# Altium schematic symbol library ADClib.SchLib: 35 symbols
Pins are listed as number, name and electrical type; pins without a type are passive.

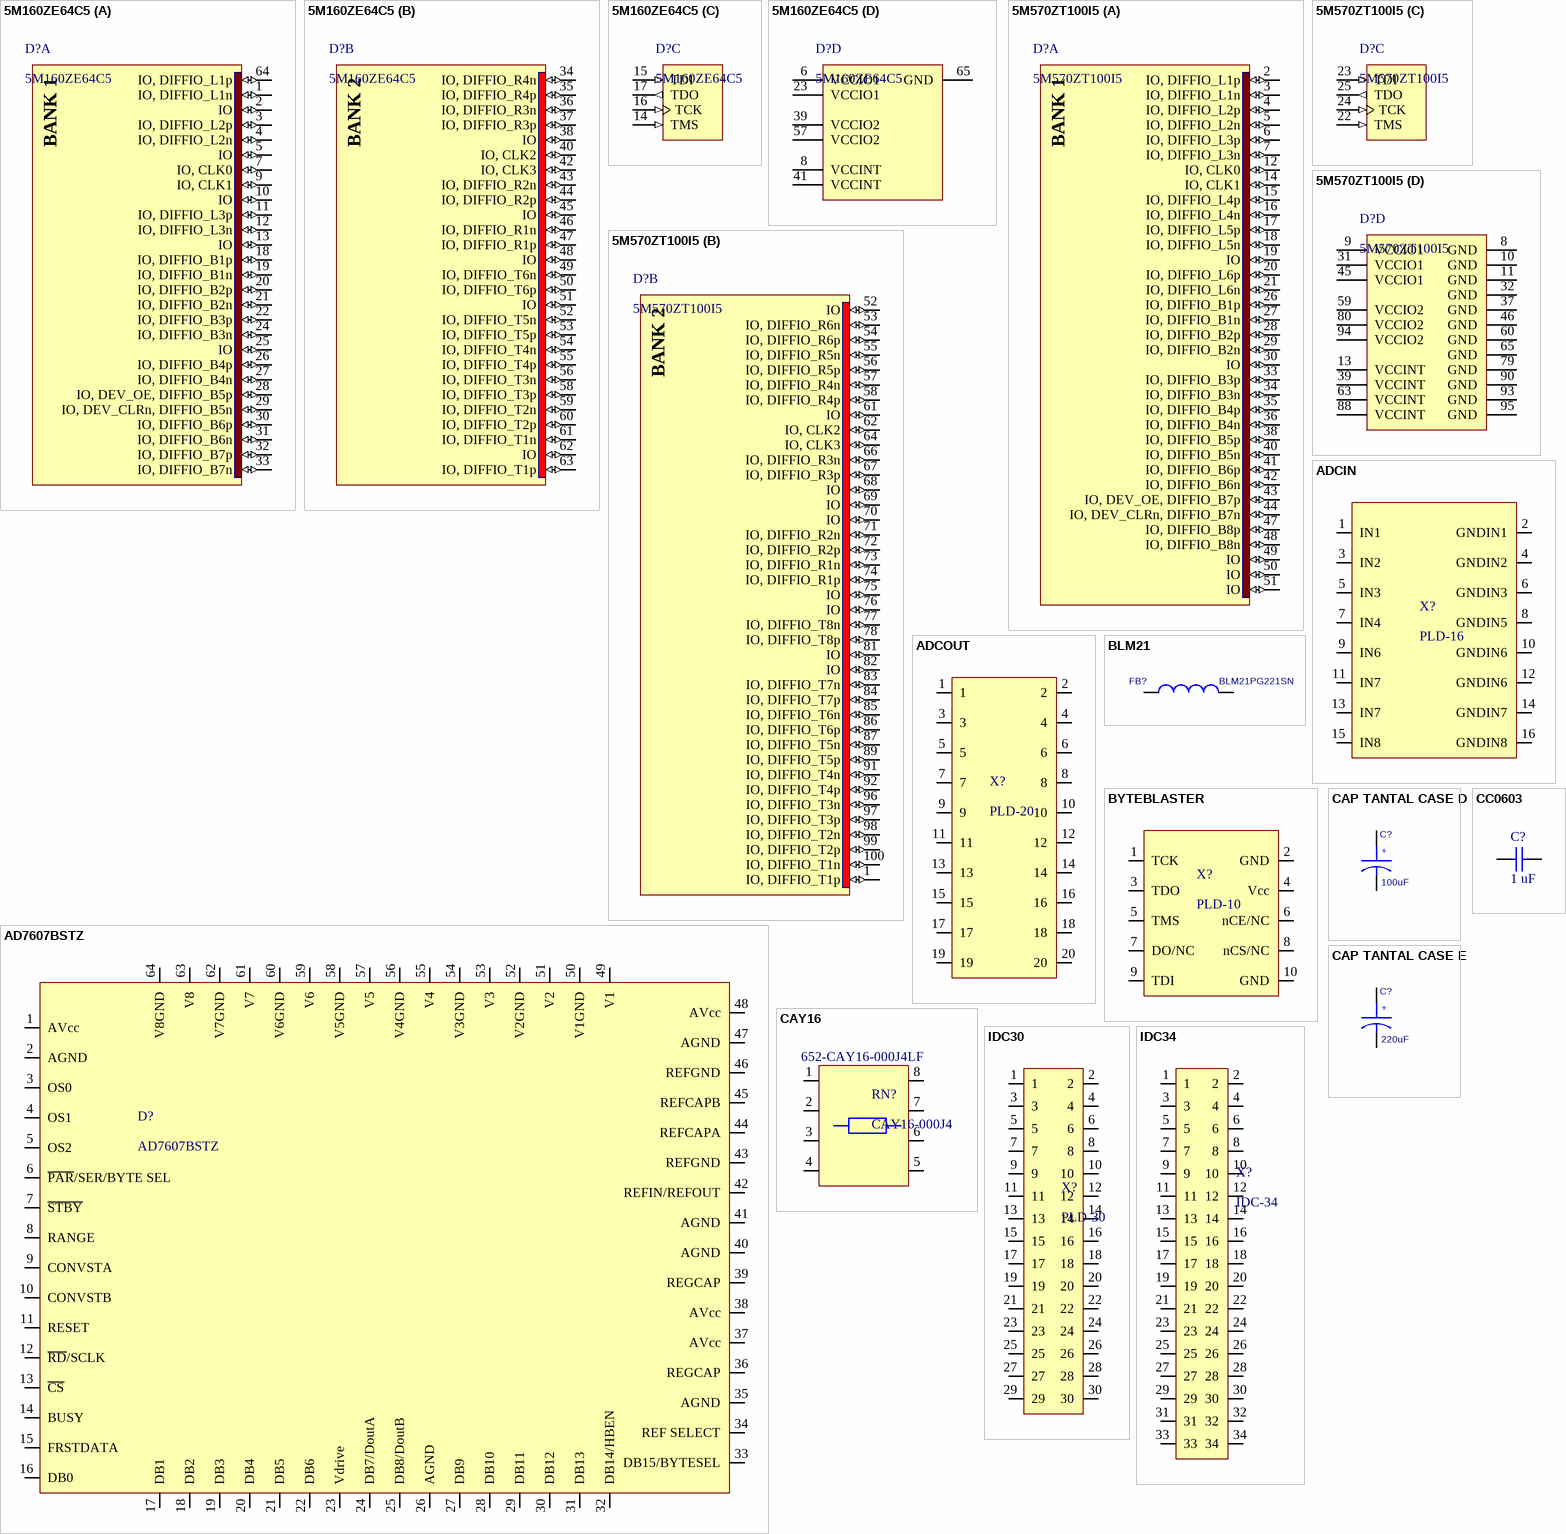
[diagram p0: symbols 5M160ZE64C5 to IDC34]

## 5M160ZE64C5
designator D?
MAX V 1.8V CPLD, 54 IOs, 160 Logic Elements, 64-Pin EQFP, Commercial Temperature, Speed Grade 5; DatasheetVersion: ver1.2, May-2011; PackageVersion: ver1.0, Jul-2011; PackageReference: EQFP64_A-120_D2-45; PackageDescription: 64-Pin Plastic Enhanced Quad Flat (EQFP) - Wire Bond - A:1.20 - D2:4.5; Code_JEDEC: MS-026-ABD-HD; ComponentLink1Description: Manufacturer URL; ComponentLink1URL: http://www.altera.com/; ComponentLink2Description: Datasheet; ComponentLink2URL: http://www.altera.com/literature/hb/max-v/max5_handbook.pdf; ComponentLink3Description: MAX V Device Pin-Out files; ComponentLink3URL: http://www.altera.com/literature/lit-dp.jsp?category=MAX%205&showspreadsheet=y; ComponentLink4Description: Package Specification; ComponentLink4URL: http://www.altera.com/devicepackaging/04R00384-01.pdf
footprint EQFP64_A-120_D2-45_N (Thin QFP, 64-Leads, Body 7x7mm, Pitch 0.4mm, Thermal Pad, IPC Medium Density)
footprint EQFP64_A-120_D2-45_L (Thin QFP, 64-Leads, Body 7x7mm, Pitch 0.4mm, Thermal Pad, IPC High Density)
footprint EQFP64_A-120_D2-45_M (Thin QFP, 64-Leads, Body 7x7mm, Pitch 0.4mm, Thermal Pad, IPC Low Density)
part A pins: 1 IO, DIFFIO_L1n (io), 2 IO (io), 3 IO, DIFFIO_L2p (io), 4 IO, DIFFIO_L2n (io), 5 IO (io), 7 IO, CLK0 (io), 9 IO, CLK1 (io), 10 IO (io), 11 IO, DIFFIO_L3p (io), 12 IO, DIFFIO_L3n (io), 13 IO (io), 18 IO, DIFFIO_B1p (io), 19 IO, DIFFIO_B1n (io), 20 IO, DIFFIO_B2p (io), 21 IO, DIFFIO_B2n (io), 22 IO, DIFFIO_B3p (io), 24 IO, DIFFIO_B3n (io), 25 IO (io), 26 IO, DIFFIO_B4p (io), 27 IO, DIFFIO_B4n (io), 28 IO, DEV_OE, DIFFIO_B5p (io), 29 IO, DEV_CLRn, DIFFIO_B5n (io), 30 IO, DIFFIO_B6p (io), 31 IO, DIFFIO_B6n (io), 32 IO, DIFFIO_B7p (io), 33 IO, DIFFIO_B7n (io), 64 IO, DIFFIO_L1p (io)
part B pins: 34 IO, DIFFIO_R4n (io), 35 IO, DIFFIO_R4p (io), 36 IO, DIFFIO_R3n (io), 37 IO, DIFFIO_R3p (io), 38 IO (io), 40 IO, CLK2 (io), 42 IO, CLK3 (io), 43 IO, DIFFIO_R2n (io), 44 IO, DIFFIO_R2p (io), 45 IO (io), 46 IO, DIFFIO_R1n (io), 47 IO, DIFFIO_R1p (io), 48 IO (io), 49 IO, DIFFIO_T6n (io), 50 IO, DIFFIO_T6p (io), 51 IO (io), 52 IO, DIFFIO_T5n (io), 53 IO, DIFFIO_T5p (io), 54 IO, DIFFIO_T4n (io), 55 IO, DIFFIO_T4p (io), 56 IO, DIFFIO_T3n (io), 58 IO, DIFFIO_T3p (io), 59 IO, DIFFIO_T2n (io), 60 IO, DIFFIO_T2p (io), 61 IO, DIFFIO_T1n (io), 62 IO (io), 63 IO, DIFFIO_T1p (io)
part C pins: 14 TMS (in), 15 TDI (in), 16 TCK (in), 17 TDO (out)
part D pins: 6 VCCIO1 (power), 8 VCCINT (power), 23 VCCIO1 (power), 39 VCCIO2 (power), 41 VCCINT (power), 57 VCCIO2 (power), 65 GND (power)
part A text: BANK 1
part B text: BANK 2

## 5M570ZT100I5
designator D?
MAX V 1.8V CPLD, 74 IOs, 570 Logic Elements, 100-Pin TQFP, Industrial Temperature, Speed Grade 5; DatasheetVersion: ver1.2, May-2011; PackageVersion: ver1.0, Jul-2011; PackageReference: TQFP100_A-120; PackageDescription: 100-Pin Plastic Thin Quad Flat Pack (TQFP) - Wire Bond - A:1.20; Code_JEDEC: MS-029-AED; ComponentLink1Description: Manufacturer URL; ComponentLink1URL: http://www.altera.com/; ComponentLink2Description: Datasheet; ComponentLink2URL: http://www.altera.com/literature/hb/max-v/max5_handbook.pdf; ComponentLink3Description: MAX V Device Pin-Out files; ComponentLink3URL: http://www.altera.com/literature/lit-dp.jsp?category=MAX%205&showspreadsheet=y; ComponentLink4Description: Package Specification; ComponentLink4URL: http://www.altera.com/devicepackaging/04R00365-01.pdf
footprint TQFP100_A-120_N (Thin QFP, 100-Leads, Body 14x14mm, Pitch 0.5mm, IPC Medium Density)
footprint TQFP100_A-120_L (Thin QFP, 100-Leads, Body 14x14mm, Pitch 0.5mm, IPC High Density)
footprint TQFP100_A-120_M (Thin QFP, 100-Leads, Body 14x14mm, Pitch 0.5mm, IPC Low Density)
part A pins: 2 IO, DIFFIO_L1p (io), 3 IO, DIFFIO_L1n (io), 4 IO, DIFFIO_L2p (io), 5 IO, DIFFIO_L2n (io), 6 IO, DIFFIO_L3p (io), 7 IO, DIFFIO_L3n (io), 12 IO, CLK0 (io), 14 IO, CLK1 (io), 15 IO, DIFFIO_L4p (io), 16 IO, DIFFIO_L4n (io), 17 IO, DIFFIO_L5p (io), 18 IO, DIFFIO_L5n (io), 19 IO (io), 20 IO, DIFFIO_L6p (io), 21 IO, DIFFIO_L6n (io), 26 IO, DIFFIO_B1p (io), 27 IO, DIFFIO_B1n (io), 28 IO, DIFFIO_B2p (io), 29 IO, DIFFIO_B2n (io), 30 IO (io), 33 IO, DIFFIO_B3p (io), 34 IO, DIFFIO_B3n (io), 35 IO, DIFFIO_B4p (io), 36 IO, DIFFIO_B4n (io), 38 IO, DIFFIO_B5p (io), 40 IO, DIFFIO_B5n (io), 41 IO, DIFFIO_B6p (io), 42 IO, DIFFIO_B6n (io), 43 IO, DEV_OE, DIFFIO_B7p (io), 44 IO, DEV_CLRn, DIFFIO_B7n (io), 47 IO, DIFFIO_B8p (io), 48 IO, DIFFIO_B8n (io), 49 IO (io), 50 IO (io), 51 IO (io)
part B pins: 1 IO, DIFFIO_T1p (io), 52 IO (io), 53 IO, DIFFIO_R6n (io), 54 IO, DIFFIO_R6p (io), 55 IO, DIFFIO_R5n (io), 56 IO, DIFFIO_R5p (io), 57 IO, DIFFIO_R4n (io), 58 IO, DIFFIO_R4p (io), 61 IO (io), 62 IO, CLK2 (io), 64 IO, CLK3 (io), 66 IO, DIFFIO_R3n (io), 67 IO, DIFFIO_R3p (io), 68 IO (io), 69 IO (io), 70 IO (io), 71 IO, DIFFIO_R2n (io), 72 IO, DIFFIO_R2p (io), 73 IO, DIFFIO_R1n (io), 74 IO, DIFFIO_R1p (io), 75 IO (io), 76 IO (io), 77 IO, DIFFIO_T8n (io), 78 IO, DIFFIO_T8p (io), 81 IO (io), 82 IO (io), 83 IO, DIFFIO_T7n (io), 84 IO, DIFFIO_T7p (io), 85 IO, DIFFIO_T6n (io), 86 IO, DIFFIO_T6p (io), 87 IO, DIFFIO_T5n (io), 89 IO, DIFFIO_T5p (io), 91 IO, DIFFIO_T4n (io), 92 IO, DIFFIO_T4p (io), 96 IO, DIFFIO_T3n (io), 97 IO, DIFFIO_T3p (io), 98 IO, DIFFIO_T2n (io), 99 IO, DIFFIO_T2p (io), 100 IO, DIFFIO_T1n (io)
part C pins: 22 TMS (in), 23 TDI (in), 24 TCK (in), 25 TDO (out)
part D pins: 8 GND (power), 9 VCCIO1 (power), 10 GND (power), 11 GND (power), 13 VCCINT (power), 31 VCCIO1 (power), 32 GND (power), 37 GND (power), 39 VCCINT (power), 45 VCCIO1 (power), 46 GND (power), 59 VCCIO2 (power), 60 GND (power), 63 VCCINT (power), 65 GND (power), 79 GND (power), 80 VCCIO2 (power), 88 VCCINT (power), 90 GND (power), 93 GND (power), 94 VCCIO2 (power), 95 GND (power)
part A text: BANK 1
part B text: BANK 2

## AD7607BSTZ
designator D?
AD7607BSTZ ADC Simultan; Supplier 1: Digi-Key; Supplier Part Number 1: AD7607BSTZ-ND
footprint TSQFP50P1200X1200X160-64N (TSQFP, 64-Leads, Body 10,00x10,00mm, Pitch 0,50mm, IPC Medium Density)
pins: 1 AVcc, 2 AGND, 3 OS0, 4 OS1, 5 OS2, 6 ~{PAR}/SER/BYTE SEL, 7 ~{STBY}, 8 RANGE, 9 CONVSTA, 10 CONVSTB, 11 RESET, 12 ~{RD}/SCLK, 13 ~{CS}, 14 BUSY, 15 FRSTDATA, 16 DB0, 17 DB1, 18 DB2, 19 DB3, 20 DB4, 21 DB5, 22 DB6, 23 Vdrive, 24 DB7/DoutA, 25 DB8/DoutB, 26 AGND, 27 DB9, 28 DB10, 29 DB11, 30 DB12, 31 DB13, 32 DB14/HBEN, 33 DB15/BYTESEL, 34 REF SELECT, 35 AGND, 36 REGCAP, 37 AVcc, 38 AVcc, 39 REGCAP, 40 AGND, 41 AGND, 42 REFIN/REFOUT, 43 REFGND, 44 REFCAPA, 45 REFCAPB, 46 REFGND, 47 AGND, 48 AVcc, 49 V1, 50 V1GND, 51 V2, 52 V2GND, 53 V3, 54 V3GND, 55 V4, 56 V4GND, 57 V5, 58 V5GND, 59 V6, 60 V6GND, 61 V7, 62 V7GND, 63 V8, 64 V8GND

## ADCIN
designator X?, comment PLD-16
ADC connector
footprint PLD-16
pins: 1 IN1, 2 GNDIN1, 3 IN2, 4 GNDIN2, 5 IN3, 6 GNDIN3, 7 IN4, 8 GNDIN5, 9 IN6, 10 GNDIN6, 11 IN7, 12 GNDIN6, 13 IN7, 14 GNDIN7, 15 IN8, 16 GNDIN8

## ADCOUT
designator X?, comment PLD-20
ADCOUT connector
footprint PLD-20
pins: 1, 2, 3, 4, 5, 6, 7, 8, 9, 10, 11, 12, 13, 14, 15, 16, 17, 18, 19, 20

## BLM21
designator FB?, comment BLM21PG221SN
Mfg Part#: BLM18PG121SN1D; Vendor Part#: 490-1037-1-ND; Mfg: Murata; Vendor: DigiKey; Specifications: FERRITE CHIP 120 OHM 2000MA 0603; Oper. Temp. Range: -55C to 125C; Package: 0603; RoHS: Yes; Supplier 1: Digi-Key; Supplier Part Number 1: 490-1054-6-ND
footprint INDC2009M (Chip Inductor, Body 2.0x0.9mm, IPC Low Density)
pins: 1, 2

## BYTEBLASTER
designator X?, comment PLD-10
footprint PLD-10
pins: 1 TCK, 2 GND, 3 TDO, 4 Vcc, 5 TMS, 6 nCE/NC, 7 DO/NC, 8 nCS/NC, 9 TDI, 10 GND

## CAP TANTAL CASE D
designator C?, comment 100uF
Vendor Part#: 495-2256-1-ND; Mfg Part#: B45196H3107M409; Vendor: DigiKey; Mfg: Kemet; Specifications: CAP TANTALUM 100UF 16V 20% SMD; Oper. Temp. Range: -55C to 125C; RoHS: Yes; Package: 7343-31
footprint TC7343-2917 (Capacitor, SM Tantalum; Body 7.3 x 4.3 mm (LxW typ))
pins: 1 Positive, 2 Negative
text: +

## CAP TANTAL CASE E
designator C?, comment 220uF
Vendor Part#: 495-2256-1-ND; Mfg Part#: B45196H3107M409; Vendor: DigiKey; Mfg: Kemet; Specifications: CAP TANTALUM 100UF 16V 20% SMD; Oper. Temp. Range: -55C to 125C; RoHS: Yes; Package: 7343-31
footprint TC7343-2917 (Capacitor, SM Tantalum; Body 7.3 x 4.3 mm (LxW typ))
pins: 1 Positive, 2 Negative
text: +

## CAY16
designator RN?, comment CAY16-000J4  Supplier Part Number 1: 652-CAY16-000J4LF
0 Ohm; Supplier 1: Mouser
footprint EXB38V (Chip Resistor Array, (0603x4); SM; 8 Leads; Body 3.40 x 1.75 mm (LxW max))
pins: 1, 2, 3, 4, 5, 6, 7, 8

## CC0603
designator C?, comment 1 uF
±10%, X7R, 0603; MaxVoltage: 10Vdc; Value: 1µF; Published: 2014; LatestRevisionDate: 2014; LatestRevisionNote: Re-released for DXP Platform.; PackageReference: RAD-0.3; Publisher: DS; PackageDescription: ChipCapasitor; HelpURL: http://product.tdk.com/capacitor/mlcc/en/documents/mlcc_commercial_general_en.pdf; Supplier 1: Digi-Key; Supplier Part Number 1: 445-4998-1-ND
simulation model CAP (Capacitor)
signal-integrity model Cap
footprint CAPC1608N (Chip Capacitor, Body 1.6x0.8mm, IPC Medium Density)
pins: 1, 2

## IDC30
designator X?, comment PLD-30
PLD-30 or IDC 30
footprint PLD-30
pins: 1, 2, 3, 4, 5, 6, 7, 8, 9, 10, 11, 12, 13, 14, 15, 16, 17, 18, 19, 20, 21, 22, 23, 24, 25, 26, 27, 28, 29, 30

## IDC34
designator X?, comment IDC-34
PLD-34 or IDC 34
footprint PLD-34
pins: 1, 2, 3, 4, 5, 6, 7, 8, 9, 10, 11, 12, 13, 14, 15, 16, 17, 18, 19, 20, 21, 22, 23, 24, 25, 26, 27, 28, 29, 30, 31, 32, 33, 34

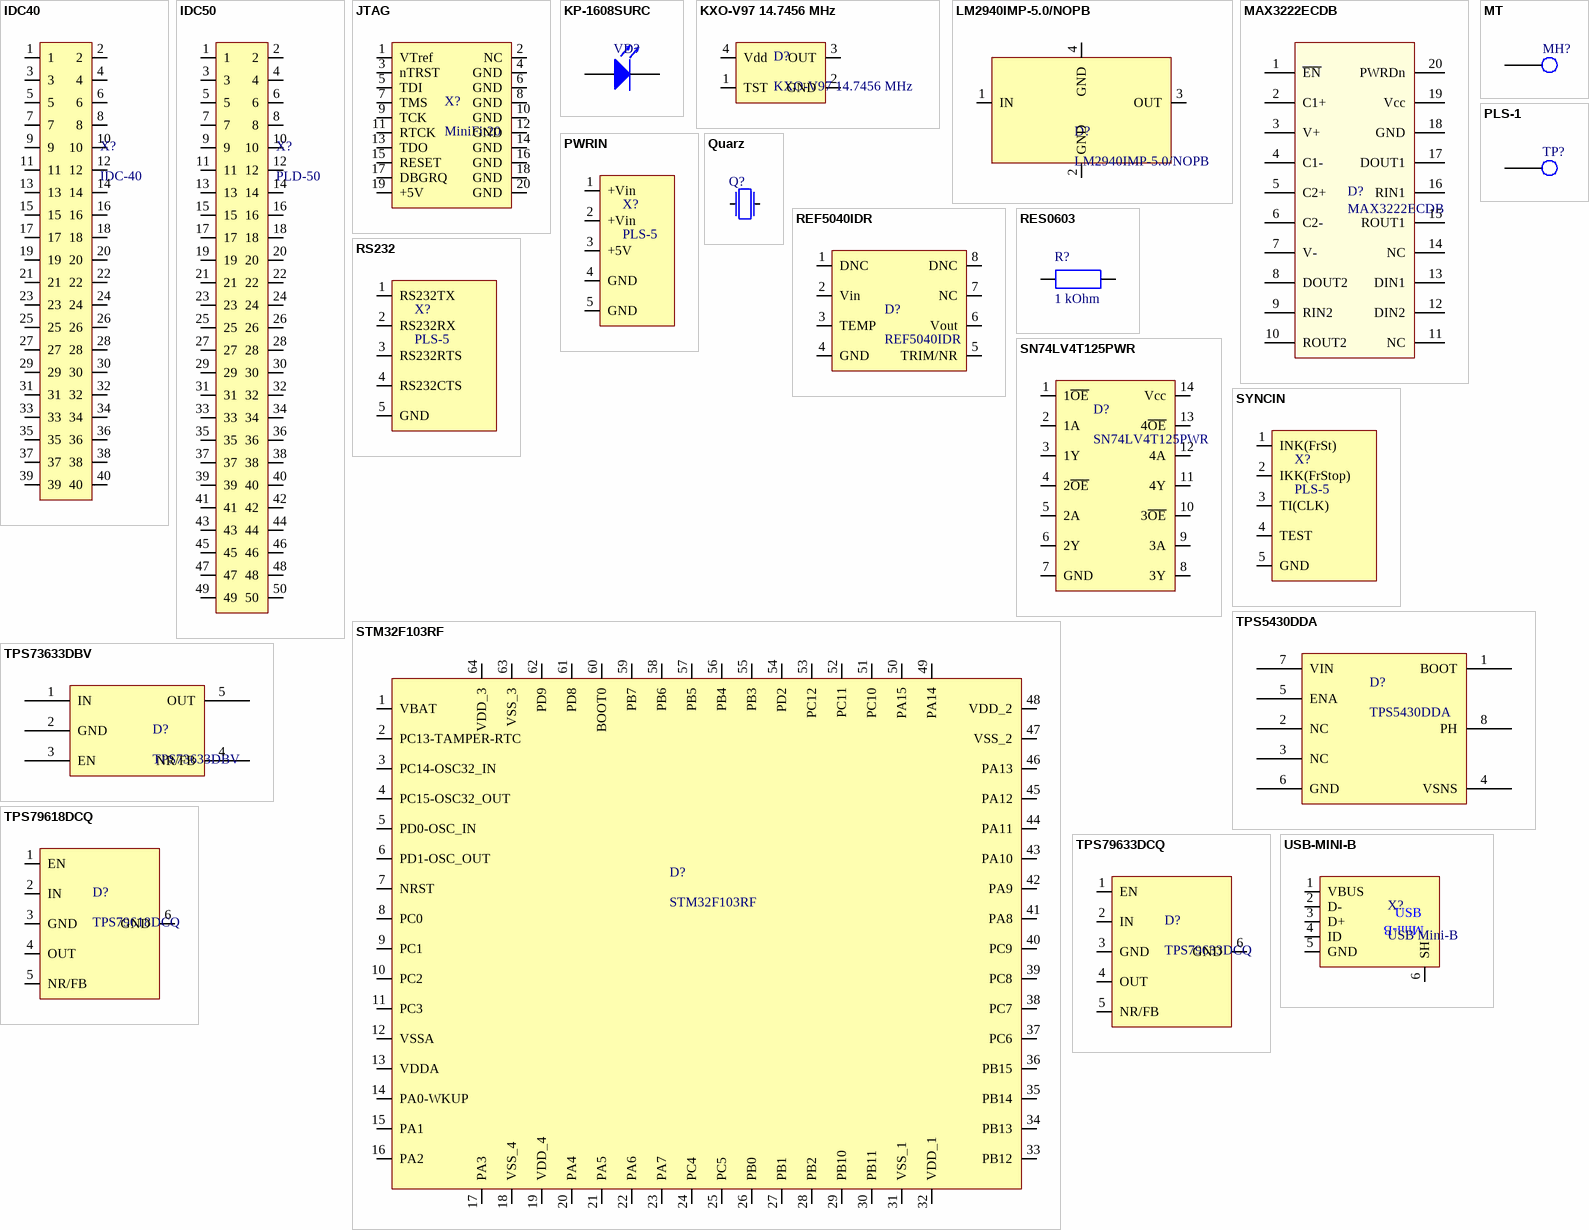
[diagram p1: symbols IDC40 to USB-MINI-B]

## IDC40
designator X?, comment IDC-40
PLD-40 or IDC 40
footprint PLD-40
pins: 1, 2, 3, 4, 5, 6, 7, 8, 9, 10, 11, 12, 13, 14, 15, 16, 17, 18, 19, 20, 21, 22, 23, 24, 25, 26, 27, 28, 29, 30, 31, 32, 33, 34, 35, 36, 37, 38, 39, 40

## IDC50
designator X?, comment PLD-50
PLD-50 or IDC 50
pins: 1, 2, 3, 4, 5, 6, 7, 8, 9, 10, 11, 12, 13, 14, 15, 16, 17, 18, 19, 20, 21, 22, 23, 24, 25, 26, 27, 28, 29, 30, 31, 32, 33, 34, 35, 36, 37, 38, 39, 40, 41, 42, 43, 44, 45, 46, 47, 48, 49, 50

## JTAG
designator X?, comment MiniFit20
footprint PLD-20
pins: 1 VTref, 2 NC, 3 nTRST, 4 GND, 5 TDI, 6 GND, 7 TMS, 8 GND, 9 TCK, 10 GND, 11 RTCK, 12 GND, 13 TDO, 14 GND, 15 RESET, 16 GND, 17 DBGRQ, 18 GND, 19 +5V, 20 GND

## KP-1608SURC
designator VD?  (value not drawn)
Published: 29-Sep-2000; LatestRevisionDate: 17-Jul-2002; LatestRevisionNote: Re-released for DXP Platform.; PackageReference: 299-02; Publisher: Altium Limited; PackageDescription: Diode, Axial; Body 5.1 x 2.3 mm (LxDia. max), Lead Dia. 0.56 mm (max); Code_JEDEC: DO-204-AH; ComponentLink1Description: Manufacturer Link; ComponentLink1URL: http://www.onsemi.com/site/products/landing?taxonomyID=194
simulation model 1N748 (DIODE)
signal-integrity model 1N748A
footprint LED1608N (Chip Resistor, Body 1.6x0.8mm, IPC Medium Density)
pins: 1 A, 2 K

## KXO-V97 14.7456 MHz
designator D?
footprint KXO-V97 (QFN, 8-Leads, Body 5,00x7,00mm, Pitch 4,20mm/5,03mm, IPC Medium Density)
pins: 1 TST, 2 GND, 3 OUT, 4 Vdd

## LM2940IMP-5.0/NOPB
designator D?
5V LDO
footprint SOT230P700X180-4N (SOT223, 4-Leads, Body 6,50x7,00mm (avg), Pitch 2,30mm, IPC Medium Density)
pins: 1 IN, 2 GND, 3 OUT, 4 GND

## MAX3222ECDB
designator D?
RS232 driver
footprint SOP65P780X200-20N (SOP, 20-Leads, Body 7.5x5.6mm (max), Pitch 0.65mm, IPC Medium Density)
pins: 1 ~{EN}, 2 C1+, 3 V+, 4 C1-, 5 C2+, 6 C2-, 7 V-, 8 DOUT2, 9 RIN2, 10 ROUT2, 11 NC, 12 DIN2, 13 DIN1, 14 NC, 15 ROUT1, 16 RIN1, 17 DOUT1, 18 GND, 19 Vcc, 20 PWRDn

## MT
designator MH?, comment HOLE  (value not drawn)
footprint MT
pins: 1 "Connect to gnd"

## PLS-1
designator TP?  (value not drawn)
footprint TPSW
pins: 1 "Connect to gnd"

## PWRIN
designator X?, comment PLS-5
footprint PLS-5
pins: 1 +Vin, 2 +Vin, 3 +5V, 4 GND, 5 GND

## Quarz
designator Q?
Ceramic quarz; MaxVoltage: 10Vdc; Value: 1µF; Published: 2014; LatestRevisionDate: 2014; LatestRevisionNote: Re-released for DXP Platform.; PackageReference: RAD-0.3; Publisher: DS; PackageDescription: ChipCapasitor; HelpURL: http://product.tdk.com/capacitor/mlcc/en/documents/mlcc_commercial_general_en.pdf
footprint HC-49/U3H
pins: 1, 2

## REF5040IDR
designator D?
footprint SO8 (Small Outline; 8 Leads; Body Width 3.9 mm; Pitch 1.27 mm)
pins: 1 DNC, 2 Vin, 3 TEMP, 4 GND, 5 TRIM/NR, 6 Vout, 7 NC, 8 DNC

## RES0603
designator R?, comment 1 kOhm
±5%, 0603; MaxVoltage: 10Vdc; Value: 1µF; Published: 2014; LatestRevisionDate: 2014; LatestRevisionNote: Re-released for DXP Platform.; PackageReference: RAD-0.3; Publisher: DS; PackageDescription: ChipCapasitor; HelpURL: http://product.tdk.com/capacitor/mlcc/en/documents/mlcc_commercial_general_en.pdf
footprint RESC1608N (Chip Resistor, Body 1.6x0.8mm, IPC Medium Density)
pins: 1, 2

## RS232
designator X?, comment PLS-5
footprint PLS-5
pins: 1 RS232TX, 2 RS232RX, 3 RS232RTS, 4 RS232CTS, 5 GND

## SN74LV4T125PWR
designator D?
SN74LV4T125PWR voltage level converter; Supplier 1: Mouser; Supplier Part Number 1: 595-SN74LV4T125PWR
footprint TSOP65P640X120-14N (TSOP, 14-Leads, Body 5,00x4,40mm, Pitch 0,65mm, IPC Medium Density)
pins: 1 1~{OE}, 2 1A, 3 1Y, 4 2~{OE}, 5 2A, 6 2Y, 7 GND, 8 3Y, 9 3A, 10 3~{OE}, 11 4Y, 12 4A, 13 4~{OE}, 14 Vcc

## STM32F103RF
designator D?
STM32F103RF LQFP64
footprint LQFP64 (TSQFP, 64-Leads, Body 10,00x10,00mm, Pitch 0,50mm, IPC Medium Density)
pins: 1 VBAT, 2 PC13-TAMPER-RTC, 3 PC14-OSC32_IN, 4 PC15-OSC32_OUT, 5 PD0-OSC_IN, 6 PD1-OSC_OUT, 7 NRST, 8 PC0, 9 PC1, 10 PC2, 11 PC3, 12 VSSA, 13 VDDA, 14 PA0-WKUP, 15 PA1, 16 PA2, 17 PA3, 18 VSS_4, 19 VDD_4, 20 PA4, 21 PA5, 22 PA6, 23 PA7, 24 PC4, 25 PC5, 26 PB0, 27 PB1, 28 PB2, 29 PB10, 30 PB11, 31 VSS_1, 32 VDD_1, 33 PB12, 34 PB13, 35 PB14, 36 PB15, 37 PC6, 38 PC7, 39 PC8, 40 PC9, 41 PA8, 42 PA9, 43 PA10, 44 PA11, 45 PA12, 46 PA13, 47 VSS_2, 48 VDD_2, 49 PA14, 50 PA15, 51 PC10, 52 PC11, 53 PC12, 54 PD2, 55 PB3, 56 PB4, 57 PB5, 58 PB6, 59 PB7, 60 BOOT0, 61 PD8, 62 PD9, 63 VSS_3, 64 VDD_3

## SYNCIN
designator X?, comment PLS-5
footprint PLS-5
pins: 1 INK(FrSt), 2 IKK(FrStop), 3 TI(CLK), 4 TEST, 5 GND

## TPS5430DDA
designator D?
footprint SO8D (Small Outline; 8 Leads; Body Width 3.9 mm; Pitch 1.27 mm)
pins: 1 BOOT, 2 NC, 3 NC, 4 VSNS, 5 ENA, 6 GND, 7 VIN, 8 PH

## TPS73633DBV
designator D?
LDO 3.3 V
footprint SOT95P280X145-5N (SOT23, 5-Leads, Body 3.0x3.0mm (max), Pitch 0.95mm, IPC Medium Density)
pins: 1 IN, 2 GND, 3 EN, 4 NR/FB, 5 OUT

## TPS79618DCQ
designator D?
Supplier 1: Mouser; Supplier Part Number 1: 595-TPS79601DCQR
footprint SOT127P706X180-6N (SOT223, 6-Leads, Body 6.6x7.3mm (max), Pitch 1.27mm, IPC Medium Density)
pins: 1 EN, 2 IN, 3 GND, 4 OUT, 5 NR/FB, 6 GND

## TPS79633DCQ
designator D?
Supplier 1: Mouser; Supplier Part Number 1: 595-TPS79601DCQR
footprint SOT127P706X180-6N (SOT223, 6-Leads, Body 6.6x7.3mm (max), Pitch 1.27mm, IPC Medium Density)
pins: 1 EN, 2 IN, 3 GND, 4 OUT, 5 NR/FB, 6 GND

## USB-MINI-B
designator X?, comment USB Mini-B
footprint USBMINIB (Molex 548191572)
pins: 1 VBUS, 2 D-, 3 D+, 4 ID, 5 GND, 6 SH
text: USB; Mini-B